# Altium schematic symbol library SCHLIB 485.SchLib: 6 symbols
Pins are listed as number, name and electrical type; pins without a type are passive.

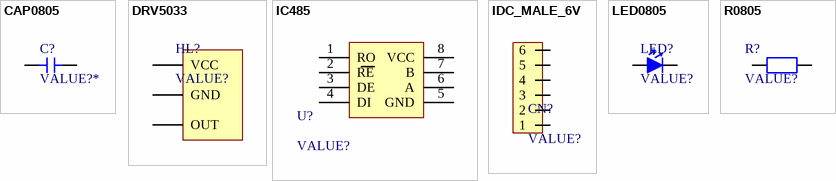
[diagram p0: symbols CAP0805 to R0805]

## CAP0805
designator C?, comment VALUE?*
footprint C0805 (Chip Capacitor, 2-Leads, Body 2.00x1.25mm, IPC Medium Density)
pins: 1, 2

## DRV5033
designator HL?, comment VALUE?
footprint DRV5033
pins: 1 VCC, 2 GND, 3 OUT

## IC485
designator U?, comment VALUE?
footprint IC485 (SOIC, 8-Leads, Body 4.90x3.90mm, Pitch 1.27mm, IPC Medium Density)
pins: 1 RO, 2 RE, 3 DE, 4 DI, 5 GND, 6 A, 7 B, 8 VCC

## IDC_MALE_6V
designator CN?, comment VALUE?
footprint IDC_MALE_6V
pins: 1, 2, 3, 4, 5, 6

## LED0805
designator LED?, comment VALUE?
LED 0805
footprint LED0805 (Chip Diode, 2-Leads, Body 2.00x1.25mm, IPC Medium Density)
pins: 1 A, 2 C

## R0805
designator R?, comment VALUE?
footprint R0805 (Chip Resistor, 2-Leads, Body 2.05x1.30mm, IPC Medium Density)
pins: 1, 2